# Altium footprint library crystals.PcbLib: 1 footprints
Each footprint in its own frame and in the unit in brackets; x right, y up, seen from the top. Pads: shape width x height; smd on the part's side, far side on the other; paste and mask are expansions set on the pad; w line width, h text height; cw(c..) or ccw(c..) is an arc to the next point about the centre after c.
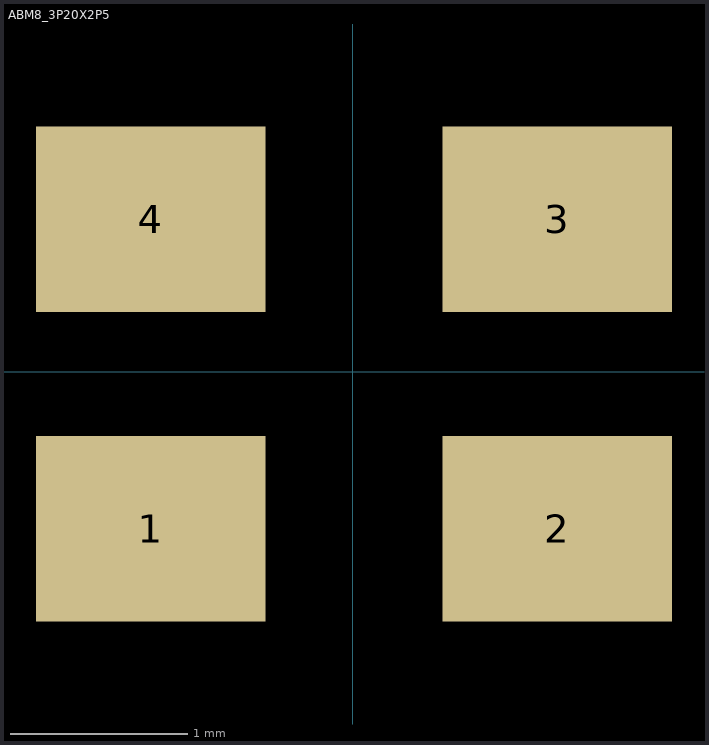
[diagram p0: the footprint, top view; thin cyan lines are the x and y axes]

## ABM8_3P20X2P5 [mm] "AMB8"
pads (4):
  rect 1.3x1.05 smd: 1(-1.143,-0.889) 2(1.157,-0.889) 3(1.157,0.861) 4(-1.143,0.861)
3D body "ABM8.STEP": height 0.74, standoff -0.07, extent -1.6,-1.23 1.6,1.27